# Altium schematic symbol library MIC842NYMT-T5.SchLib: 1 symbol
Pins are listed as number, name and electrical type; pins without a type are passive.

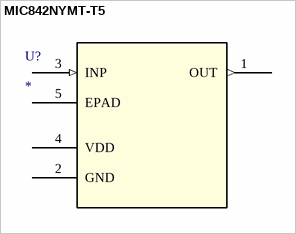
[diagram p0: symbol MIC842NYMT-T5]

## MIC842NYMT-T5
designator U?
No Description Available; Mfr_Name: Microchip; RefDes: RefDes; Type: Type
footprint TDFN4_1P2X1P6_MCH
pins: 1 OUT (out), 2 GND (power), 3 INP (in), 4 VDD (power), 5 EPAD